# Altium footprint library IC_IO_EXPANDER_I2C_18DIP.PcbLib: 1 footprints
Each footprint in its own frame and in the unit in brackets; x right, y up, seen from the top. Pads: shape width x height; smd on the part's side, far side on the other; paste and mask are expansions set on the pad; w line width, h text height; cw(c..) or ccw(c..) is an arc to the next point about the centre after c.
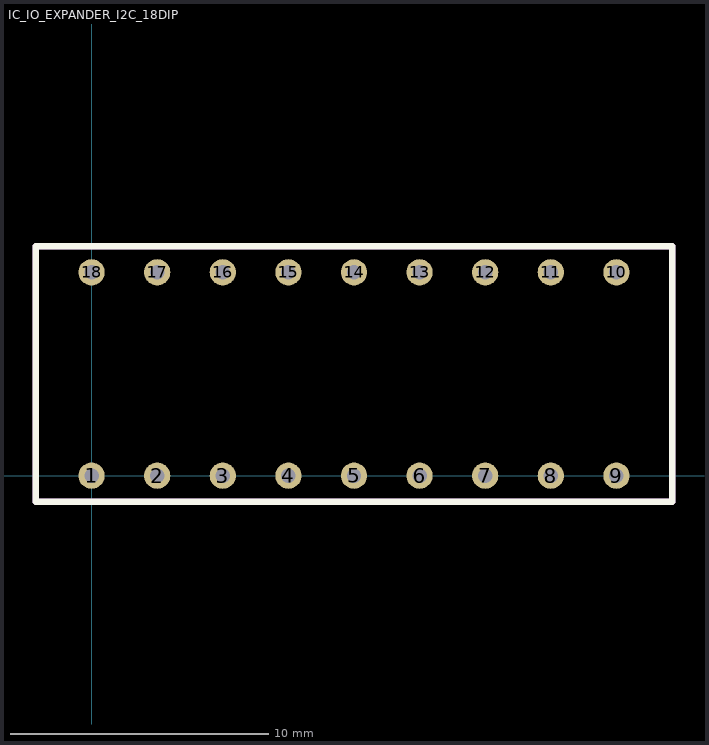
[diagram p0: the footprint, top view; thin cyan lines are the x and y axes]

## IC_IO_EXPANDER_I2C_18DIP [mil] "I/O Expander 8 I²C 1.7 MHz 18-PDIP"
pads (18):
  round 40 hole 22: 1(0,0) 2(100,0) 3(200,0) 4(300,0) 5(400,0) 6(500,0) 7(600,0) 8(700,0) 9(800,0) 10(800,310) 11(700,310) 12(600,310) 13(500,310) 14(400,310) 15(300,310) 16(200,310) 17(100,310) 18(0,310)
Top Overlay:
  lines w10: -85,-40 885,-40 885,350 -85,350 -85,-40
Mechanical 1:
  lines w10: -85,-40 885,-40 885,350 -85,350 -85,-40
  text ".DESIGNATOR" at 288.02,145 h30
3D body "IC_IO_EXPANDER_I2C_18DIP.STEP": height 210.5, standoff -149.5, extent -50,-5 850,305